# EAGLE library part BDM (library GW-devices)
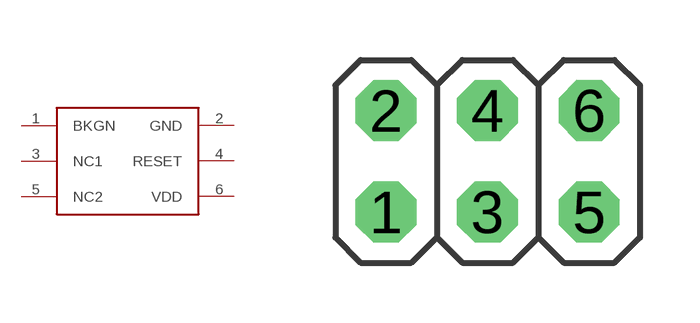
[diagram p7: symbol with the pads of HEADER-3X2; footprint HEADER-3X2]

Designator prefix -

## BDM  [HEADER-3X2]
1  BKGN  in
2  GND  in
3  NC1  in
4  RESET  in
5  NC2  in
6  VDD  in

## Footprint HEADER-3X2 (pad centres in mm)
PIN HEADER
drill 1.016 octagon: 1 -5.08,0; 2 -5.08,2.54; 3 -2.54,0; 4 -2.54,2.54; 5 0,0; 6 0,2.54